# Altium footprint library SnapEDApcb.PcbLib: 1 footprints
Each footprint in its own frame and in the unit in brackets; x right, y up, seen from the top. Pads: shape width x height; smd on the part's side, far side on the other; paste and mask are expansions set on the pad; w line width, h text height; cw(c..) or ccw(c..) is an arc to the next point about the centre after c.
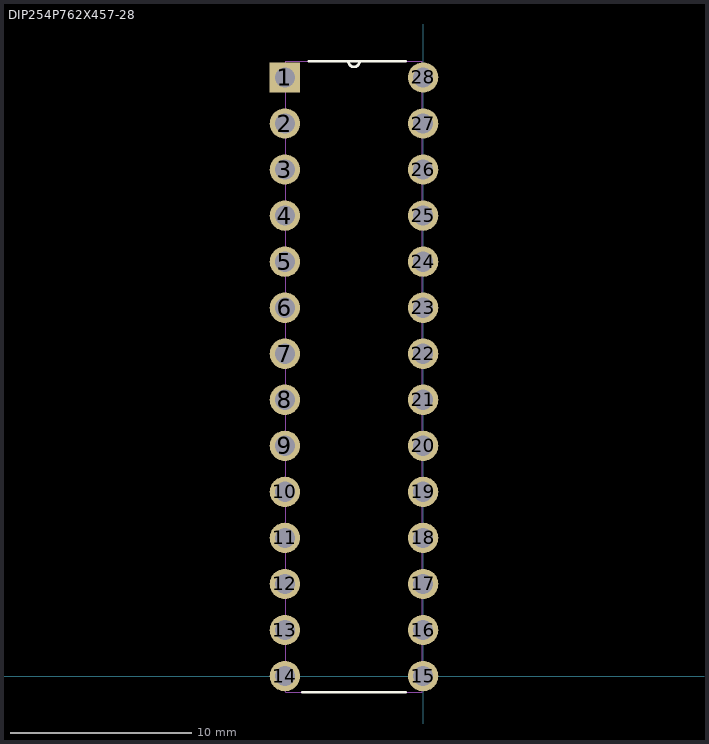
[diagram p0: the footprint, top view; thin cyan lines are the x and y axes]

## DIP254P762X457-28 [mil]
pads (28):
  rect 66x66 hole 44: 1(-300,1300)
  round 66 hole 44: 2(-300,1200) 3(-300,1100) 4(-300,1000) 5(-300,900) 6(-300,800) 7(-300,700) 8(-300,600) 9(-300,500) 10(-300,400) 11(-300,300) 12(-300,200) 13(-300,100) 14(-300,0) 15(0,0) 16(0,100) 17(0,200) 18(0,300) 19(0,400) 20(0,500) 21(0,600) 22(0,700) 23(0,800) 24(0,900) 25(0,1000) 26(0,1100) 27(0,1200) 28(0,1300)
Top Overlay:
  lines w6: -262,-35 -38,-35 ; -248,1335 -162,1335 ; -38,1335 -138,1335 ; -162,1335 ccw(c-150,1335) -138,1335 ; -162,1335 -138,1335
Mechanical 13:
  lines w0: -162,1335 ccw(c-150,1335) -138,1335 ; -162,1335 -298,1335 -298,-35 -2,-35 -2,1335 -138,1335 ; -162,1335 -138,1335 ; -322,-22 -297,-22 -297,22 -322,22 -322,-22 ; -322,78 -297,78 -297,122 -322,122 -322,78 ; -322,178 -297,178 -297,222 -322,222 -322,178 ; -322,278 -297,278 -297,322 -322,322 -322,278 ; -322,378 -297,378 -297,422 -322,422 -322,378 ; -322,478 -297,478 -298,522 -322,522 -322,478 ; -322,578 -298,578 -298,622 -322,622 -322,578 ; -322,678 -298,678 -298,722 -322,722 -322,678 ; -322,778 -298,778 -298,822 -322,822 -322,778 ; -322,878 -298,878 -298,922 -322,922 -322,878 ; -322,978 -298,978 -298,1022 -322,1022 -322,978 ; -322,1078 -298,1078 -298,1122 -322,1122 -322,1078 ; -322,1178 -298,1178 -298,1222 -322,1222 -322,1178 ; -322,1278 -298,1278 -298,1322 -322,1322 -322,1278 ; -3,22 22,22 22,-22 -2,-22 -3,22 ; -3,122 22,122 22,78 -2,78 -3,122 ; -3,178 22,178 22,222 -3,222 -3,178 ; -3,278 22,278 22,322 -3,322 -3,278 ; -3,378 22,378 22,422 -3,422 -3,378 ; -3,478 22,478 22,522 -3,522 -3,478 ; -3,578 22,578 22,622 -3,622 -3,578 ; -3,678 22,678 22,722 -3,722 -3,678 ; -3,778 22,778 22,822 -3,822 -3,778 ; -3,878 22,878 22,922 -3,922 -3,878 ; -3,978 22,978 22,1022 -3,1022 -3,978 ; -3,1078 22,1078 22,1122 -3,1122 -3,1078 ; -3,1178 22,1178 22,1222 -3,1222 -3,1178 ; -3,1278 22,1278 22,1322 -3,1322 -3,1278